# EAGLE library part CFLASH1 (library ideadapterdouble)
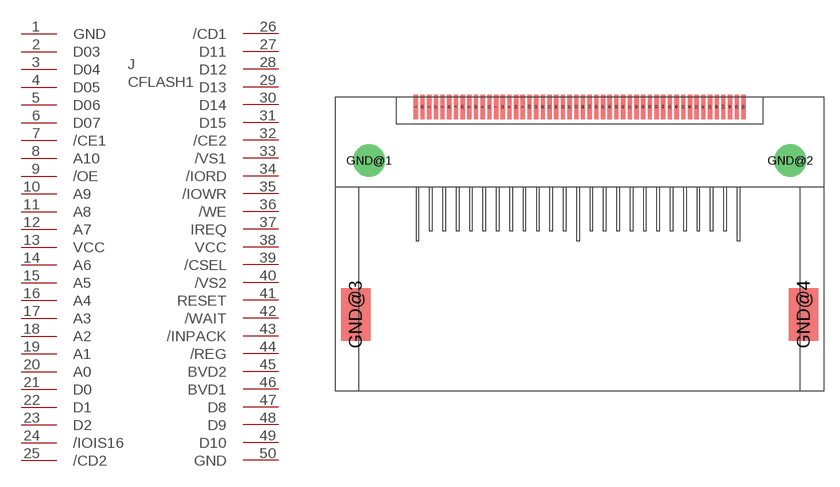
[diagram p0: symbol with the pads of CFSMT; footprint CFSMT]

Designator prefix J

## CFLASH1  [CFSMT]
1  GND  pwr
2  D03
3  D04
4  D05
5  D06
6  D07
7  /CE1  in
8  A10  in
9  /OE  in
10  A9  in
11  A8  in
12  A7  in
13  VCC  pwr
14  A6  in
15  A5  in
16  A4  in
17  A3  in
18  A2  in
19  A1  in
20  A0  in
21  D0
22  D1
23  D2
24  /IOIS16  in
25  /CD2  in
26  /CD1  in
27  D11
28  D12
29  D13
30  D14
31  D15
32  /CE2  in
33  /VS1  in
34  /IORD  in
35  /IOWR  in
36  /WE  in
37  IREQ
38  VCC  pwr
39  /CSEL  in
40  /VS2  in
41  RESET  in
42  /WAIT
43  /INPACK  in
44  /REG  in
45  BVD2  in
46  BVD1  in
47  D8
48  D9
49  D10
50  GND  pwr

## Footprint CFSMT (pad centres in mm)
smd 0.406 x 2.311: 1 -15.557,0; 2 -14.287,0; 3 -13.018,0; 4 -11.748,0; 5 -10.477,0; 6 -9.207,0; 7 -7.938,0; 8 -6.668,0; 9 -5.397,0; 10 -4.128,0; 11 -2.857,0; 12 -1.587,0; 13 -0.318,0; 14 0.953,0; 15 2.223,0; 16 3.493,0; 17 4.763,0; 18 6.032,0; 19 7.303,0; 20 8.572,0; 21 9.842,0; 22 11.113,0; 23 12.383,0; 24 13.652,0; 25 14.922,0; 26 -14.922,0; 27 -13.652,0; 28 -12.383,0; 29 -11.113,0; 30 -9.842,0; 31 -8.572,0; 32 -7.303,0; 33 -6.032,0; 34 -4.763,0; 35 -3.493,0; 36 -2.223,0; 37 -0.953,0; 38 0.318,0; 39 1.587,0; 40 2.857,0; 41 4.128,0; 42 5.397,0; 43 6.668,0; 44 7.938,0; 45 9.207,0; 46 10.477,0; 47 11.748,0; 48 13.018,0; 49 14.287,0; 50 15.557,0
drill 2.032 pad 3.048: GND@1 -20.003,-5.08; GND@2 20.003,-5.08
smd 2.794 x 5.004: GND@3 -21.273,-19.685; GND@4 21.273,-19.685